# EAGLE library part LED-RGB-SEPARATE-* (library rgb-led-separate)
RGB LED with separate contacts for all 3 chips
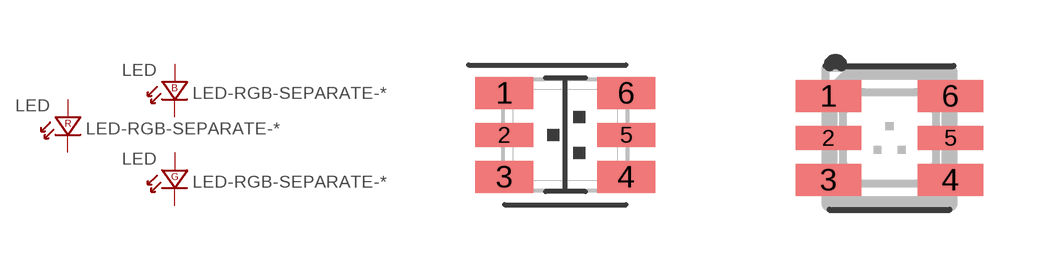
[diagram p0: symbol with the pads of LED-3528; footprints LED-3528, PLCC-6]

Designator prefix LED; gates B=LED-B G=LED-G R=LED-R

## LED-RGB-SEPARATE-3528  [LED-3528]
1  B:A  pas
2  R:A  pas
3  G:A  pas
4  G:K  pas
5  R:K  pas
6  B:K  pas

## LED-RGB-SEPARATE-PLCC-6  [PLCC-6]
1  R:A  pas
2  G:K  pas
3  G:A  pas
4  B:A  pas
5  B:K  pas
6  R:K  pas

## LED-RGB-SEPARATE-PLCC-6-NOSILK  [PLCC-6-NOSILK]
Pads as for PLCC-6

## Footprint LED-3528 (pad centres in mm)
LED SMT Silicone (3.5x2.8)mm, 0.95 mm pitch. Used by Rohm as "3528" (Imperial 1411), aka "V5". Typical height 0.6 mm.
smd 1.45 x 0.8: 1 -1.525,1.05; 3 -1.525,-1.05; 4 1.525,-1.05; 6 1.525,1.05
smd 1.45 x 0.6: 2 -1.525,0; 5 1.525,0

## Footprint PLCC-6 (pad centres in mm)
PLCC-6 3.5x2.5x1.6 mm SMT LED package, silicone
smd 1.65 x 0.8: 1 -1.525,1.05; 3 -1.525,-1.05; 4 1.525,-1.05; 6 1.525,1.05
smd 1.65 x 0.6: 2 -1.525,0; 5 1.525,0

## Footprint PLCC-6-NOSILK (pad centres in mm)
PLCC-6 3.5x2.5x1.6 mm SMT LED package, silicone This package version has no silkscreen placment marks.
smd 1.65 x 0.8: 1 -1.525,1.05; 3 -1.525,-1.05; 4 1.525,-1.05; 6 1.525,1.05
smd 1.65 x 0.6: 2 -1.525,0; 5 1.525,0